# Altium footprint library MAX22508EASA_plus_.PcbLib: 3 footprints
Each footprint in its own frame and in the unit in brackets; x right, y up, seen from the top. Pads: shape width x height; smd on the part's side, far side on the other; paste and mask are expansions set on the pad; w line width, h text height; cw(c..) or ccw(c..) is an arc to the next point about the centre after c.
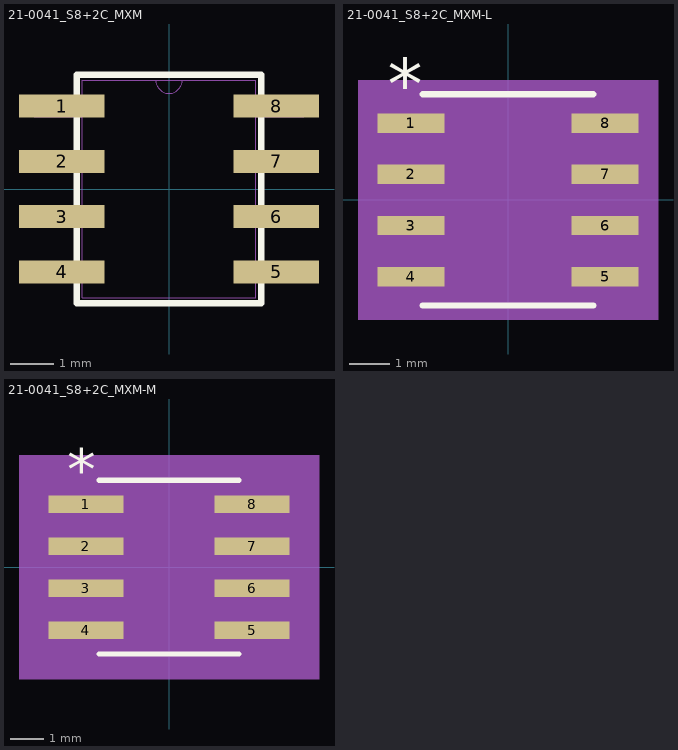
[diagram p0: the footprints below, top view; thin cyan lines are the x and y axes]

## 21-0041_S8+2C_MXM [mil]
pads (8):
  rect 77.56x20.97 smd paste+0 mask+0: 1(-97,75) 2(-97,25) 3(-97,-25) 4(-97,-75) 5(97,-75) 6(97,-25) 7(97,25) 8(97,75)
Top Overlay:
  lines w6: -83.5,-103.5 -83.5,103.5 83.5,103.5 83.5,-103.5 -83.5,-103.5
Mechanical 13:
  lines w0: -12,98.5 ccw(c0,98.5) 12,98.5
  lines w1: -122,-84.5 -122,-65.5 -78.5,-65.5 -78.5,-84.5 -122,-84.5 ; -122,-34.5 -122,-15.5 -78.5,-15.5 -78.5,-34.5 -122,-34.5 ; -122,15.5 -122,34.5 -78.5,34.5 -78.5,15.5 -122,15.5 ; -122,65.5 -122,84.5 -78.5,84.5 -78.5,65.5 -122,65.5 ; -78.5,-98.5 78.5,-98.5 78.5,98.5 -78.5,98.5 -78.5,-98.5 ; 78.5,-84.5 78.5,-65.5 122,-65.5 122,-84.5 78.5,-84.5 ; 78.5,-34.5 78.5,-15.5 122,-15.5 122,-34.5 78.5,-34.5 ; 78.5,15.5 78.5,34.5 122,34.5 122,15.5 78.5,15.5 ; 78.5,65.5 78.5,84.5 122,84.5 122,65.5 78.5,65.5
3D body: height 10, standoff 0, extent 0,0 10,10

## 21-0041_S8+2C_MXM-L [mil]
pads (8):
  rect 65.75x19 smd paste+0 mask+0: 1(-95.03,75) 2(-95.03,25) 3(-95.03,-25) 4(-95.03,-75) 5(95.03,-75) 6(95.03,-25) 7(95.03,25) 8(95.03,75)
Top Overlay:
  lines w6: -83.5,-103.5 83.5,-103.5 ; -83.5,103.5 83.5,103.5
  text "*" at -117.53,89 h50
Mechanical 5:
  region: 146.91,-117.5 -146.91,-117.5 -146.91,117.5 146.91,117.5
Mechanical 13:
  lines w0: -12,98.5 ccw(c0,98.5) 12,98.5
  lines w1: -122,-84.5 -78.5,-84.5 -78.5,-65.5 -122,-65.5 -122,-84.5 ; -122,-34.5 -78.5,-34.5 -78.5,-15.5 -122,-15.5 -122,-34.5 ; -122,15.5 -78.5,15.5 -78.5,34.5 -122,34.5 -122,15.5 ; -122,65.5 -78.5,65.5 -78.5,84.5 -122,84.5 -122,65.5 ; -78.5,-98.5 -78.5,98.5 78.5,98.5 78.5,-98.5 -78.5,-98.5 ; 78.5,-84.5 122,-84.5 122,-65.5 78.5,-65.5 78.5,-84.5 ; 78.5,-34.5 122,-34.5 122,-15.5 78.5,-15.5 78.5,-34.5 ; 78.5,15.5 122,15.5 122,34.5 78.5,34.5 78.5,15.5 ; 78.5,65.5 122,65.5 122,84.5 78.5,84.5 78.5,65.5
  text "*" at -76,45.5 h50
Mechanical 15:
  region: -82.5,-88.5 -131.91,-88.5 -131.91,88.5 -82.5,88.5 -82.5,102.5 82.5,102.5 82.5,88.5 131.91,88.5 131.91,-88.5 82.5,-88.5 82.5,-102.5 -82.5,-102.5
  lines w6: -131.91,-88.5 -82.5,-88.5 -82.5,-102.5 82.5,-102.5 82.5,-88.5 131.91,-88.5 131.91,88.5 82.5,88.5 82.5,102.5 -82.5,102.5 -82.5,88.5 -131.91,88.5 -131.91,-88.5
3D body: height 10, standoff 0, extent 0,0 10,10

## 21-0041_S8+2C_MXM-M [mm]
pads (8):
  rect 2.27x0.533 smd paste+0 mask+0: 1(-2.514,1.905) 2(-2.514,0.635) 3(-2.514,-0.635) 4(-2.514,-1.905) 5(2.514,-1.905) 6(2.514,-0.635) 7(2.514,0.635) 8(2.514,1.905)
Top Overlay:
  lines w0.152: -2.121,-2.629 2.121,-2.629 ; -2.121,2.629 2.121,2.629
  text "*" at -3.085,2.311 h1.27
Mechanical 5:
  region: 4.538,-3.391 -4.538,-3.391 -4.538,3.391 4.538,3.391
Mechanical 13:
  lines w0: -0.305,2.502 ccw(c0,2.502) 0.305,2.502
  lines w0.025: -3.099,-2.146 -1.994,-2.146 -1.994,-1.664 -3.099,-1.664 -3.099,-2.146 ; -3.099,-0.876 -1.994,-0.876 -1.994,-0.394 -3.099,-0.394 -3.099,-0.876 ; -3.099,0.394 -1.994,0.394 -1.994,0.876 -3.099,0.876 -3.099,0.394 ; -3.099,1.664 -1.994,1.664 -1.994,2.146 -3.099,2.146 -3.099,1.664 ; -1.994,-2.502 -1.994,2.502 1.994,2.502 1.994,-2.502 -1.994,-2.502 ; 1.994,-2.146 3.099,-2.146 3.099,-1.664 1.994,-1.664 1.994,-2.146 ; 1.994,-0.876 3.099,-0.876 3.099,-0.394 1.994,-0.394 1.994,-0.876 ; 1.994,0.394 3.099,0.394 3.099,0.876 1.994,0.876 1.994,0.394 ; 1.994,1.664 3.099,1.664 3.099,2.146 1.994,2.146 1.994,1.664
  text "*" at -1.93,1.156 h1.27
Mechanical 15:
  region: -2.502,-2.679 -4.157,-2.679 -4.157,2.679 -2.502,2.679 -2.502,3.01 2.502,3.01 2.502,2.679 4.157,2.679 4.157,-2.679 2.502,-2.679 2.502,-3.01 -2.502,-3.01
  lines w0.152: -4.157,-2.679 -2.502,-2.679 -2.502,-3.01 2.502,-3.01 2.502,-2.679 4.157,-2.679 4.157,2.679 2.502,2.679 2.502,3.01 -2.502,3.01 -2.502,2.679 -4.157,2.679 -4.157,-2.679
3D body: height 0.25, standoff 0, extent 0,0 0.254,0.254